# EAGLE library part CY7C65630 (library paparazzi)
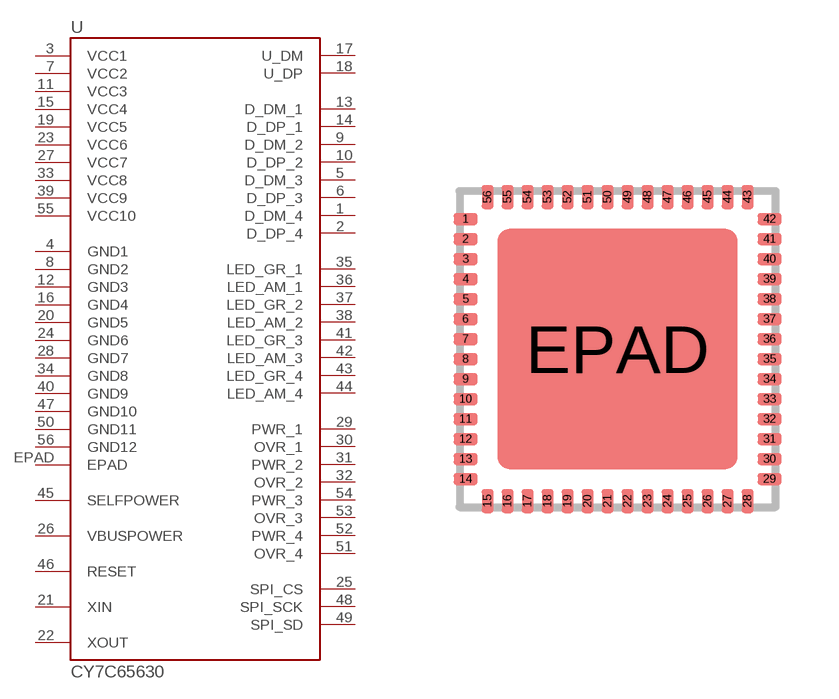
[diagram p55: symbol with the pads of QFN56; footprint QFN56]

Designator prefix -

## CY7C65630  [QFN56]
1  D_DM_4
2  D_DP_4
3  VCC1  pwr
4  GND1  pwr
5  D_DM_3
6  D_DP_3
7  VCC2  pwr
8  GND2  pwr
9  D_DM_2
10  D_DP_2
11  VCC3  pwr
12  GND3  pwr
13  D_DM_1
14  D_DP_1
15  VCC4  pwr
16  GND4  pwr
17  U_DM
18  U_DP
19  VCC5  pwr
20  GND5  pwr
21  XIN  in
22  XOUT  out
23  VCC6  pwr
24  GND6  pwr
25  SPI_CS  out
26  VBUSPOWER  in
27  VCC7  pwr
28  GND7  pwr
29  PWR_1  out
30  OVR_1  in
31  PWR_2  out
32  OVR_2  in
33  VCC8  pwr
34  GND8  pwr
35  LED_GR_1  out
36  LED_AM_1  out
37  LED_GR_2  out
38  LED_AM_2  out
39  VCC9  pwr
40  GND9  pwr
41  LED_GR_3  out
42  LED_AM_3  out
43  LED_GR_4  out
44  LED_AM_4  out
45  SELFPOWER  in
46  RESET  in
47  GND10  pwr
48  SPI_SCK  out
49  SPI_SD
50  GND11  pwr
51  OVR_4  in
52  PWR_4  out
53  OVR_3  in
54  PWR_3  out
55  VCC10  pwr
56  GND12  pwr
EPAD  EPAD  pwr

## Footprint QFN56 (pad centres in mm)
smd 0.6 x 0.3: 1 -3.8,3.25; 2 -3.8,2.75; 3 -3.8,2.25; 4 -3.8,1.75; 5 -3.8,1.25; 6 -3.8,0.75; 7 -3.8,0.25; 8 -3.8,-0.25; 9 -3.8,-0.75; 10 -3.8,-1.25; 11 -3.8,-1.75; 12 -3.8,-2.25; 13 -3.8,-2.75; 14 -3.8,-3.25; 29 3.8,-3.25; 30 3.8,-2.75; 31 3.8,-2.25; 32 3.8,-1.75; 33 3.8,-1.25; 34 3.8,-0.75; 35 3.8,-0.25; 36 3.8,0.25; 37 3.8,0.75; 38 3.8,1.25; 39 3.8,1.75; 40 3.8,2.25; 41 3.8,2.75; 42 3.8,3.25
smd 0.3 x 0.6: 15 -3.25,-3.8; 16 -2.75,-3.8; 17 -2.25,-3.8; 18 -1.75,-3.8; 19 -1.25,-3.8; 20 -0.75,-3.8; 21 -0.25,-3.8; 22 0.25,-3.8; 23 0.75,-3.8; 24 1.25,-3.8; 25 1.75,-3.8; 26 2.25,-3.8; 27 2.75,-3.8; 28 3.25,-3.8; 43 3.25,3.8; 44 2.75,3.8; 45 2.25,3.8; 46 1.75,3.8; 47 1.25,3.8; 48 0.75,3.8; 49 0.25,3.8; 50 -0.25,3.8; 51 -0.75,3.8; 52 -1.25,3.8; 53 -1.75,3.8; 54 -2.25,3.8; 55 -2.75,3.8; 56 -3.25,3.8
smd 6 x 6: EPAD 0,0